# EAGLE library part BOB-FT232R-FULL (library BOB-FT232R)
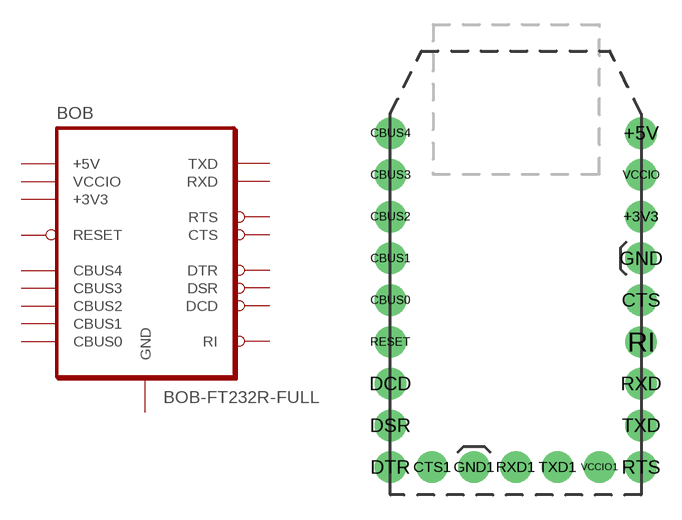
[diagram p1: symbol with the pads of BOB-FT232R-FULL; footprint BOB-FT232R-FULL]

Designator prefix BOB

## BOB-FT232R-FULL  [BOB-FT232R-FULL]
+3V3  +3V3  out
+5V  +5V  pwr
CBUS0  CBUS0
CBUS1  CBUS1
CBUS2  CBUS2
CBUS3  CBUS3
CBUS4  CBUS4
CTS  CTS  in
DCD  DCD  in
DSR  DSR  in
DTR  DTR  out
GND  GND  pwr
RESET  RESET  in
RI  RI  in
RTS  RTS  out
RXD  RXD  in
TXD  TXD  out
VCCIO  VCCIO  pwr

## Footprint BOB-FT232R-FULL (pad centres in mm)
drill 1 pad 1.91 round: +3V3 7.62,5.08; +5V 7.62,10.16; CBUS0 -7.62,0; CBUS1 -7.62,2.54; CBUS2 -7.62,5.08; CBUS3 -7.62,7.62; CBUS4 -7.62,10.16; CTS 7.62,0; CTS1 -5.08,-10.16; DCD -7.62,-5.08; DSR -7.62,-7.62; DTR -7.62,-10.16; GND 7.62,2.54; GND1 -2.54,-10.16; RESET -7.62,-2.54; RI 7.62,-2.54; RTS 7.62,-10.16; RXD 7.62,-5.08; RXD1 0,-10.16; TXD 7.62,-7.62; TXD1 2.54,-10.16; VCCIO 7.62,7.62; VCCIO1 5.08,-10.16